# Altium footprint library PCB1.PcbLib: 12 footprints
Each footprint in its own frame and in the unit in brackets; x right, y up, seen from the top. Pads: shape width x height; smd on the part's side, far side on the other; paste and mask are expansions set on the pad; w line width, h text height; cw(c..) or ccw(c..) is an arc to the next point about the centre after c.
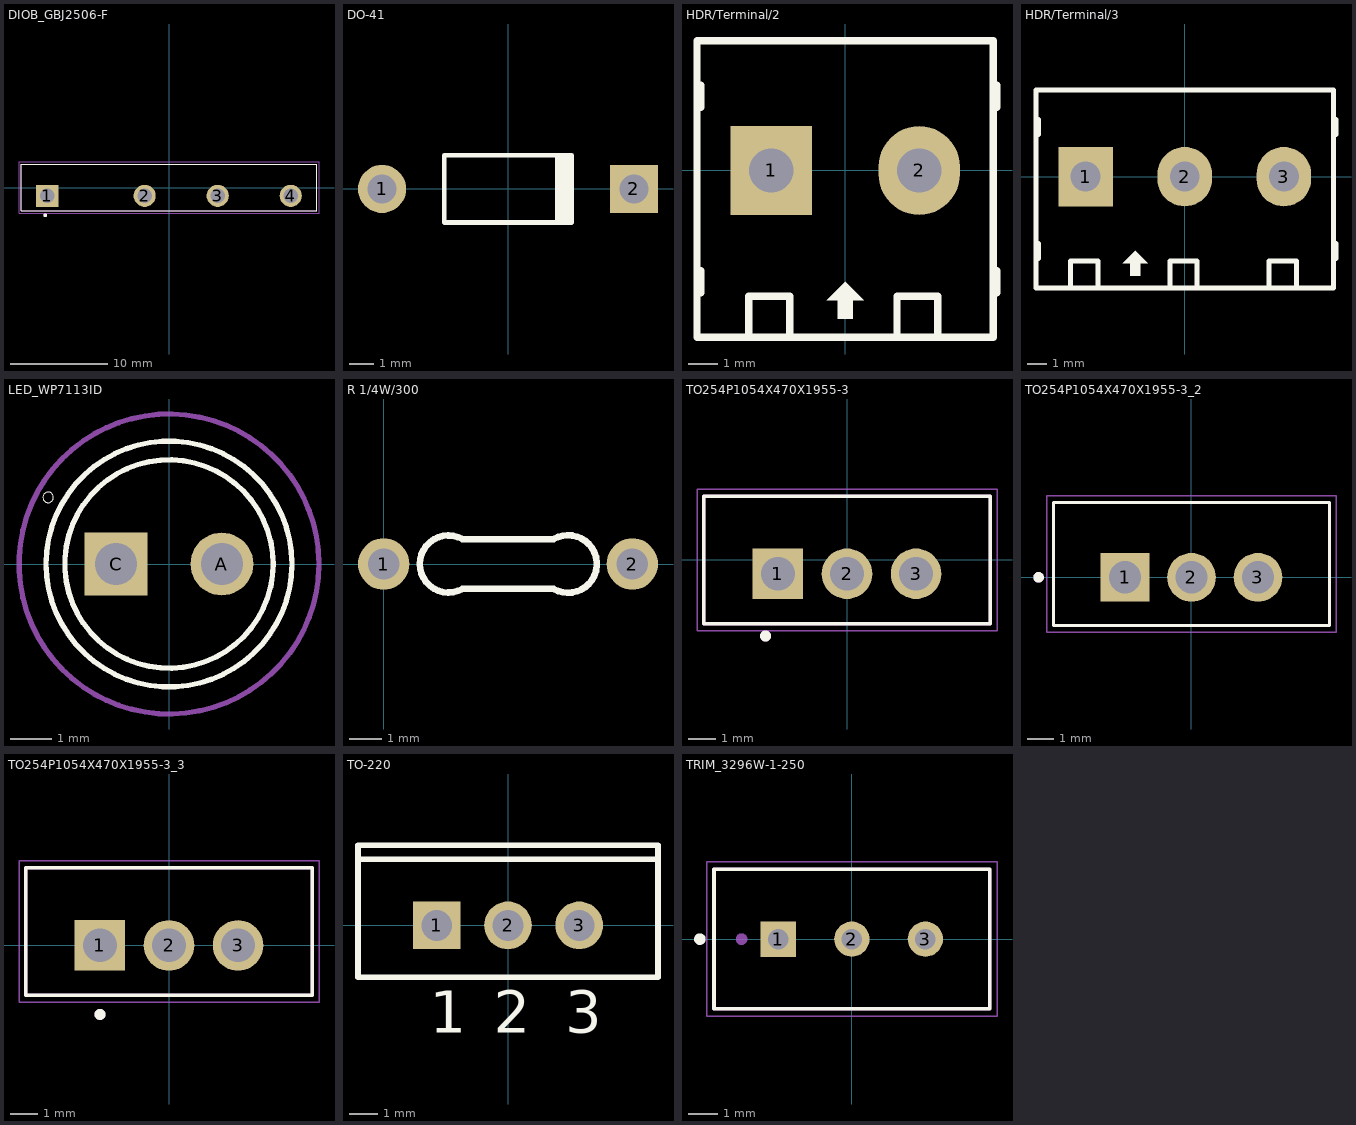
[diagram p0: the footprints below, top view; thin cyan lines are the x and y axes]

## CYL/D.400/LS.200 [mil]
height 23.62

## DIOB_GBJ2506-F [mm]
height 0.6
pads (4):
  rect 2.27x2.27 hole 1.51: 1(-12.5,-0.85)
  round 2.27 hole 1.51: 2(-2.5,-0.85) 3(5,-0.85) 4(12.5,-0.85)
Top Overlay:
  circle w0.2: c-12.7,-2.85 r0.1
  lines w0.127: -15.15,-2.4 15.15,-2.4 15.15,2.4 -15.15,2.4 -15.15,-2.4
Mechanical 13:
  circle w0.2: c-12.7,-2.85 r0.1
  lines w0.127: -15.15,-2.4 15.15,-2.4 15.15,2.4 -15.15,2.4 -15.15,-2.4
Mechanical 15:
  lines w0.05: -15.4,-2.65 15.4,-2.65 15.4,2.65 -15.4,2.65 -15.4,-2.65
3D body "step_temp.STEP": height 24.5, standoff -13.8, extent -15,-2.3 15,2.3

## DO-41 [mm] "Diode, Axial; Body 5.2 x 2.7 mm (LxDia. max), Lead Dia. 0.86 mm (max)"
height 2.8
pads (2):
  round 2 hole 1.2: 1(-5.23,0)
  rect 2x2 hole 1.2: 2(5.23,0)
Top Overlay:
  rectangle: 1.95,-1.407 2.75,1.393
  lines w0.2: 2.65,-1.4 -2.65,-1.4 -2.65,1.4 2.65,1.4

## HDR/Terminal/2 [mil] "Header 2, 2 pin, hight 400mil, Pin to Pin 200mil, Colour Green"
height 300
pads (2):
  rect 110x120 hole 60: 1(-100,0)
  oval 110x120 hole 60: 2(100,0)
Top Overlay:
  region: 0,-150 -25,-175 -10,-175 -10,-200 10,-200 10,-175 25,-175
  lines w10: -195,-165 -195,-135 ; -195,85 -195,115 ; -130,-225 -130,-170 -75,-170 -75,-225 ; 70,-225 70,-170 125,-170 125,-225 ; 205,-165 205,-135 ; 205,85 205,115 ; -200,-225 -200,175 200,175 200,-225 -200,-225
3D body "13989.stp": height 559.05, standoff -137.8, extent -229.17,-217.91 200,167.91

## HDR/Terminal/3 [mil]
height 300
pads (3):
  rect 110x120 hole 60: 1(-200,0)
  oval 110x120 hole 60: 2(0,0) 3(200,0)
Top Overlay:
  region: -100,-150 -125,-175 -110,-175 -110,-200 -90,-200 -90,-175 -75,-175
  lines w10: -295,-165 -295,-135 ; -295,85 -295,115 ; -230,-225 -230,-170 -175,-170 -175,-225 ; -30,-225 -30,-170 25,-170 25,-225 ; 170,-225 170,-170 225,-170 225,-225 ; 305,-165 305,-135 ; 305,85 305,115 ; -300,-225 -300,175 300,175 300,-225 -300,-225
3D body "13989.stp": height 559.05, standoff -137.8, extent -329.17,-217.91 100,167.91
3D body "13989.stp": height 559.05, standoff -137.8, extent -129.17,-217.91 300,167.91

## LED_WP7113ID [mm]
height 0.6
pads (2):
  round 1.508 hole 1: A(1.27,0)
  rect 1.508x1.508 / inner round 1.508 / far side rect 1.508x1.508 hole 1: C(-1.27,0)
Top Overlay:
  circle w0: c-2.9,1.6 r0.127
  circle w0.127: c0,0 r2.5
  circle w0.127: c0,0 r2.95
Mechanical 15:
  circle w0.127: c0,0 r3.6
3D body "step_temp.STEP": height 9.6, standoff -26, extent -2.5,-2.95 2.95,2.95

## R 1/4W/300 [mil] "Through hole resitor, axial 300mils, 1/4W"
height 23.62
pads (2):
  round 62 hole 38: 1(0,0) 2(300,0)
Top Overlay:
  lines w8: 95,-30 cw(c78.05,0) 95,30 205,30 cw(c222.5,0) 205,-30 95,-30
3D body "User Library-R-Axial-0_25W-7_62.step": height 97.42, standoff -146.85, extent -11.8,-47.37 311.82,47.38

## TO254P1054X470X1955-3 [mm]
height 19.55
pads (3):
  rect 1.86x1.86 / inner round 1.86 / far side rect 1.86x1.86 hole 1.24: 1(-2.54,-0.51)
  round 1.86 hole 1.24: 2(0,-0.51) 3(2.54,-0.51)
Top Overlay:
  circle w0.2: c-3,-2.8 r0.1
  lines w0.127: -5.27,-2.35 5.27,-2.35 5.27,2.35 -5.27,2.35 -5.27,-2.35
Mechanical 13:
  circle w0.2: c-3,-2.8 r0.1
  lines w0.127: -5.27,-2.35 5.27,-2.35 5.27,2.35 -5.27,2.35 -5.27,-2.35
Mechanical 15:
  lines w0.05: -5.52,-2.6 5.52,-2.6 5.52,2.6 -5.52,2.6 -5.52,-2.6
3D body "step_temp.STEP": height 20.4, standoff -9.94, extent -5.08,-2.175 5.08,2.175

## TO254P1054X470X1955-3_2 [mm]
pads (3):
  rect 1.86x1.86 / inner round 1.86 / far side rect 1.86x1.86 hole 1.24: 1(-2.54,0)
  round 1.86 hole 1.24: 2(0,0) 3(2.54,0)
Top Overlay:
  circle w0.2: c-5.84,0 r0.1
  lines w0.127: -5.27,-1.84 5.27,-1.84 5.27,2.86 -5.27,2.86 -5.27,-1.84
Mechanical 13:
  circle w0.2: c-5.84,0 r0.1
  lines w0.127: -5.27,-1.84 5.27,-1.84 5.27,2.86 -5.27,2.86 -5.27,-1.84
Mechanical 15:
  lines w0.05: -5.52,-2.09 5.52,-2.09 5.52,3.11 -5.52,3.11 -5.52,-2.09
3D body "step_temp.STEP": height 15.49, standoff -13.84, extent -5.08,-2.349 5.08,2.349

## TO254P1054X470X1955-3_3 [mm]
pads (3):
  rect 1.86x1.86 / inner round 1.86 / far side rect 1.86x1.86 hole 1.24: 1(-2.54,0)
  round 1.86 hole 1.24: 2(0,0) 3(2.54,0)
Top Overlay:
  circle w0.2: c-2.54,-2.54 r0.1
  lines w0.127: -5.27,-1.84 5.27,-1.84 5.27,2.86 -5.27,2.86 -5.27,-1.84
Mechanical 13:
  circle w0.2: c-2.54,-2.54 r0.1
  lines w0.127: -5.27,-1.84 5.27,-1.84 5.27,2.86 -5.27,2.86 -5.27,-1.84
Mechanical 15:
  lines w0.05: -5.52,-2.09 5.52,-2.09 5.52,3.11 -5.52,3.11 -5.52,-2.09
3D body "step_temp.STEP": height 15.49, standoff -13.84, extent -5.08,-2.349 5.08,2.349

## TO-220 [mm] "TO, Thru-Hole, Vertical, Heatsink Mounted; 3 In-Line Leads; Pitch 2.54 mm"
height 22.9
pads (3):
  rect 1.7x1.7 hole 1.1: 1(-2.54,0)
  round 1.7 hole 1.1: 2(0,0) 3(2.54,0)
Top Overlay:
  lines w0.2: -5.35,2.35 5.35,2.35 ; -5.35,-1.85 -5.35,2.85 5.35,2.85 5.35,-1.85 -5.35,-1.85
  text "3" at 2.04,-3.825 h1.5
  text "2" at -0.5,-3.825 h1.5
  text "1" at -2.79,-3.825 h1.5

## TRIM_3296W-1-250 [mm]
height 0.6
pads (3):
  rect 1.218x1.218 / inner round 1.218 / far side rect 1.218x1.218 hole 0.71: 1(-2.54,0)
  round 1.218 hole 0.71: 2(0,0) 3(2.54,0)
Top Overlay:
  circle w0.2: c-5.25,0 r0.1
  lines w0.127: -4.765,-2.41 4.765,-2.41 4.765,2.42 -4.765,2.42 -4.765,-2.41
Mechanical 13:
  circle w0.2: c-3.81,0 r0.1
  lines w0.127: -4.765,-2.41 -4.765,2.42 4.765,2.42 4.765,-2.41 -4.765,-2.41
Mechanical 15:
  lines w0.05: -5.015,-2.66 -5.015,2.67 5.015,2.67 5.015,-2.66 -5.015,-2.66
3D body "step_temp.STEP": height 11.55, standoff -7.72, extent -4.765,-2.41 4.765,2.42